# Altium schematic symbol library ANT_PCB_NORDIC.Schlib: 1 symbol
Pins are listed as number, name and electrical type; pins without a type are passive.

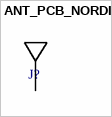
[diagram p0: symbol ANT_PCB_NORDIC]

## ANT_PCB_NORDIC
designator J?  (value not drawn)  (no BOM)
pins: 1